# Altium footprint library EEG.2B.319.CLN.PCBLIB: 1 footprints
Each footprint in its own frame and in the unit in brackets; x right, y up, seen from the top. Pads: shape width x height; smd on the part's side, far side on the other; paste and mask are expansions set on the pad; w line width, h text height; cw(c..) or ccw(c..) is an arc to the next point about the centre after c.
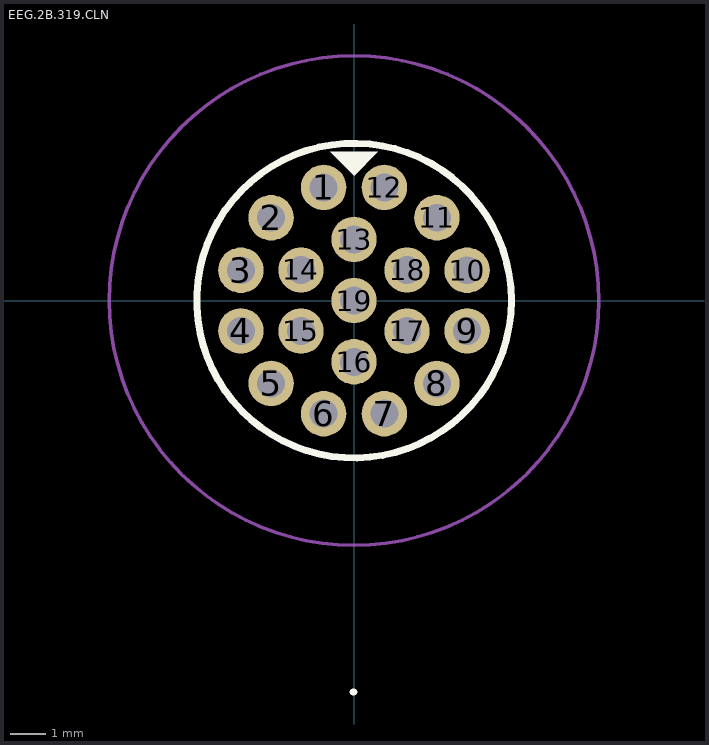
[diagram p0: the footprint, top view; thin cyan lines are the x and y axes]

## EEG.2B.319.CLN [mil]
pads (19):
  round 51.18 hole 31.5: 1(-34.13,127.4) 2(-93.27,93.27) 3(-127.4,34.13) 4(-127.4,-34.13) 5(-93.27,-93.27) 6(-34.13,-127.4) 7(34.13,-127.4) 8(93.27,-93.27) 9(127.4,-34.13) 10(127.4,34.13) 11(93.27,93.27) 12(34.13,127.4) 13(0,68.9) 14(-59.69,34.45) 15(-59.69,-34.45) 16(0,-68.9) 17(59.69,-34.45) 18(59.69,34.45) 19(0,0)
Top Overlay:
  circle w7.87: c0,0 r177.17
  region: -26.57,167.32 26.57,167.32 0,140.75
  lines w7.87: -0.98,-440.94 0,-440.94 -0.98,-440.94
Bottom Overlay:
  text "12" at 94.6,157.04 h47.24
  text "11" at 152.26,121.6 h47.24
  text "10" at 193.05,60.86 h47.24
  text "9" at 176.43,-86.77 h47.24
  text "8" at 137.92,-150.75 h47.24
  text "7" at 77.83,-190.12 h47.24
  text "6" at -55.83,-187.17 h47.24
  text "5" at -120.72,-146.53 h47.24
  text "4" at -159.39,-84.08 h47.24
  text "3" at -162.19,47.08 h47.24
  text "2" at -120.75,120.62 h47.24
  text "1" at -56.35,157.04 h47.24
Top Courtyard:
  circle w3.94: c0,0 r275.59
3D body "SPCLM0011.STEP": height 830.71, standoff -125.77, extent -387.77,-389.33 387.77,389.33